# Altium schematic symbol library CAP,Film,100nF,310VDC,X2,Radial.Schlib: 1 symbol
Pins are listed as number, name and electrical type; pins without a type are passive.

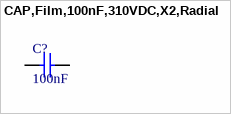
[diagram p0: symbol CAP,Film,100nF,310VDC,X2,Radial]

## CAP,Film,100nF,310VDC,X2,Radial
designator C?, comment 100nF
0.1 µF Film Capacitor 310V - Polypropylene (PP), Metallized Radial
pins: 1, 2